# Altium schematic symbol library HF15H.Schlib: 1 symbol
Pins are listed as number, name and electrical type; pins without a type are passive.

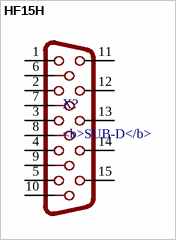
[diagram p0: symbol HF15H]

## HF15H
designator X?, comment <b>SUB-D</b>
OC_FARNELL: unknown; OC_NEWARK: unknown
footprint HDF15H
pins: 1, 2, 3, 4, 5, 6, 7, 8, 9, 10, 11, 12, 13, 14, 15